# Altium footprint library 47648-2000.PcbLib: 1 footprints
Each footprint in its own frame and in the unit in brackets; x right, y up, seen from the top. Pads: shape width x height; smd on the part's side, far side on the other; paste and mask are expansions set on the pad; w line width, h text height; cw(c..) or ccw(c..) is an arc to the next point about the centre after c.
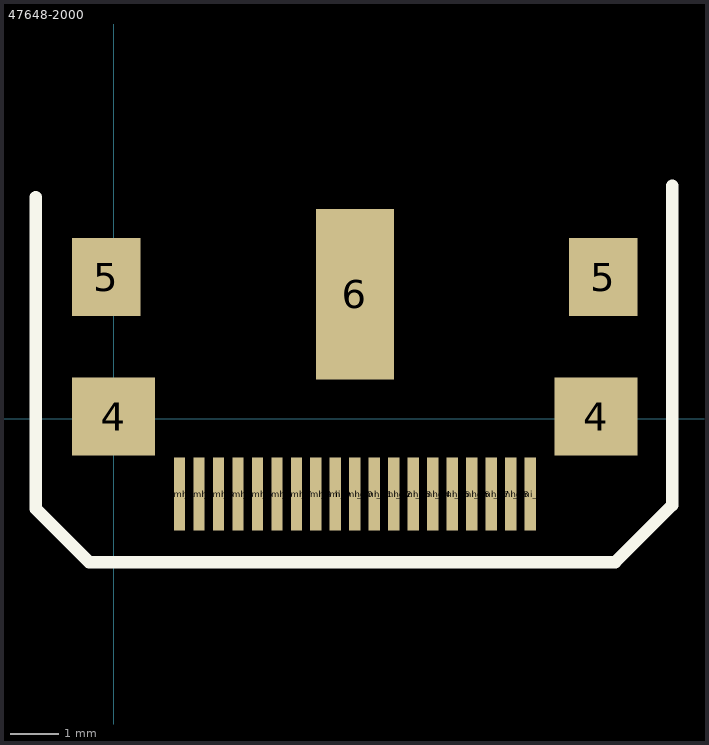
[diagram p0: the footprint, top view; thin cyan lines are the x and y axes]

## 47648-2000 [mm] "19 pad, 1mmx.23mm, .4mm pitch"
pads (24):
  rect 1.7x1.6 smd: 4(-0.005,0.039) 4(9.895,0.039)
  rect 1.4x1.6 smd: 5(-0.155,2.9) 5(10.04,2.9)
  rect 1.6x3.5 smd: 6(4.945,2.55)
  rect 0.23x1.5 smd mask+0.08: hdmi_1(1.345,-1.549) hdmi_2(1.745,-1.549) hdmi_3(2.145,-1.549) hdmi_4(2.545,-1.549) hdmi_5(2.945,-1.549) hdmi_6(3.345,-1.549) hdmi_7(3.745,-1.549) hdmi_8(4.145,-1.549) hdmi_9(4.545,-1.549) hdmi_10(4.945,-1.549) hdmi_11(5.345,-1.549) hdmi_12(5.745,-1.549) hdmi_13(6.145,-1.549) hdmi_14(6.545,-1.549) hdmi_15(6.945,-1.549) hdmi_16(7.345,-1.549) hdmi_17(7.745,-1.549) hdmi_18(8.145,-1.549) hdmi_19(8.545,-1.549)
Top Overlay:
  lines w0.254: -1.6,4.547 -1.6,-1.854 -0.508,-2.946 10.287,-2.946 11.455,-1.778 11.455,4.775